# Altium footprint library 封装库.PCBLIB: 282 footprints (part 11 of 18)
Each footprint in its own frame and in the unit in brackets; x right, y up, seen from the top. Pads: shape width x height; smd on the part's side, far side on the other; paste and mask are expansions set on the pad; w line width, h text height; cw(c..) or ccw(c..) is an arc to the next point about the centre after c.
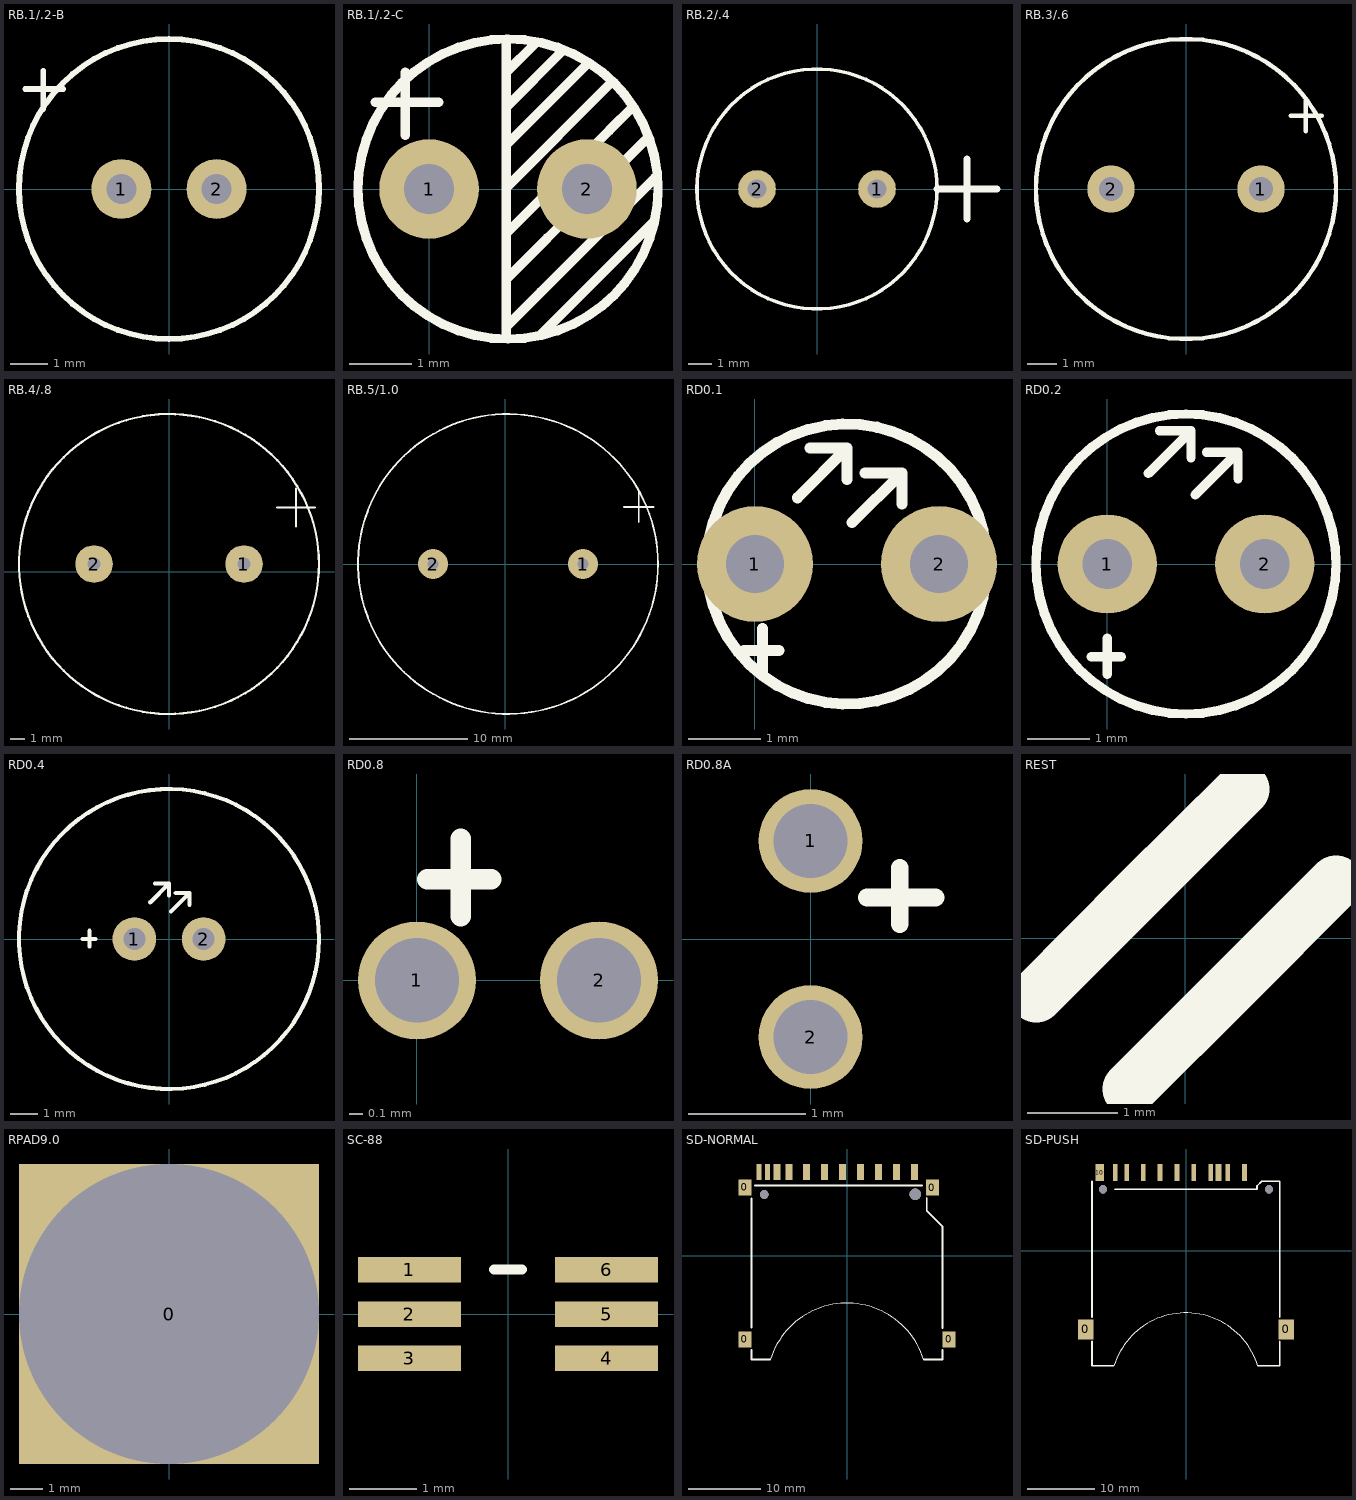
[diagram p10: the footprints below, top view; thin cyan lines are the x and y axes]

## RB.1/.2-B [mm]
pads (2):
  round 1.6 hole 0.8: 1(-1.27,0) 2(1.27,0)
TopOverlay:
  circle w0.152: c0,0 r4
  lines w0.152: -3.835,2.667 -2.819,2.667 ; -3.353,2.134 -3.353,3.15

## RB.1/.2-C [mm] "TA"
pads (2):
  round 1.6 hole 0.8: 1(0,0) 2(2.54,0)
TopOverlay:
  circle w0.152: c1.27,0 r2.413
  lines w0.152: -0.864,1.397 0.152,1.397 ; -0.381,0.864 -0.381,1.88 ; 1.245,-2.388 1.245,2.413 ; 1.245,-2.21 2.464,-0.991 ; 1.245,-1.448 1.905,-0.787 ; 1.245,-0.711 3.277,1.321 2.896,0.94 ; 1.245,0.025 2.946,1.727 ; 1.245,0.711 2.565,2.032 ; 1.245,1.321 2.159,2.235 ; 1.245,1.88 1.702,2.337 ; 1.7,-0.992 3.48,0.787 ; 1.799,-1.655 3.632,0.178 ; 1.801,-2.34 3.426,-0.714 ; 3.148,-0.993 3.607,-0.533

## RB.2/.4 [mm]
pads (2):
  round 1.6 hole 0.8: 1(2.54,0) 2(-2.54,0)
TopOverlay:
  circle w0.152: c0,0 r5.08
  lines w0.305: 5.08,0 7.62,0 ; 6.35,-1.27 6.35,1.27

## RB.3/.6 [mm]
pads (2):
  round 1.6 hole 0.8: 1(2.54,0) 2(-2.54,0)
TopOverlay:
  circle w0.152: c0,0 r5.08
  lines w0.152: 3.556,2.489 4.597,2.489 ; 4.064,1.956 4.064,2.997

## RB.4/.8 [mm]
pads (2):
  round 2.54 hole 0.9: 1(5.08,0.508) 2(-5.08,0.508)
TopOverlay:
  circle w0.152: c0,0.508 r10.16
  lines w0.152: 7.341,4.343 9.881,4.343 ; 8.611,3.073 8.611,5.613

## RB.5/1.0 [mm]
pads (2):
  round 2.54 hole 0.9: 1(6.604,0) 2(-6.096,0)
TopOverlay:
  circle w0.152: c0.254,0 r12.7
  lines w0.152: 10.058,4.826 12.598,4.826 ; 11.328,3.556 11.328,6.096

## RD0.1 [mm] "3mm LED"
pads (2):
  round 1.6 hole 0.8: 1(0,0) 2(2.54,0)
TopOverlay:
  circle w0.152: c1.27,0 r1.932
  lines w0.152: -0.152,-1.194 0.33,-1.194 ; 0.102,-1.473 0.102,-0.889 ; 0.584,0.914 1.27,1.6 1.27,1.168 ; 0.762,1.6 1.245,1.6 ; 1.342,0.572 2.028,1.258 2.028,0.826 ; 1.52,1.258 2.002,1.258

## RD0.2 [mm] "5mm LED"
pads (2):
  round 1.6 hole 0.8: 1(0,0) 2(2.54,0)
TopOverlay:
  circle w0.152: c1.27,0 r2.418
  lines w0.152: -0.254,-1.499 0.229,-1.499 ; 0,-1.778 0,-1.194 ; 0.665,1.46 1.351,2.145 1.351,1.714 ; 0.843,2.145 1.325,2.145 ; 1.422,1.118 2.108,1.803 2.108,1.372 ; 1.6,1.803 2.083,1.803

## RD0.4 [mm] "10mm LED"
pads (2):
  round 1.6 hole 0.8: 1(-1.27,0) 2(1.27,0)
TopOverlay:
  circle w0.152: c0,0 r5.5
  lines w0.152: -3.175,0 -2.692,0 ; -2.921,-0.279 -2.921,0.305 ; -0.686,1.346 0,2.032 0,1.6 ; -0.508,2.032 -0.025,2.032 ; 0.072,1.004 0.758,1.69 0.758,1.258 ; 0.25,1.69 0.732,1.69

## RD0.8 [mil]
pads (2):
  round 35 hole 25: 1(0,0) 2(54,0)
TopOverlay:
  lines w6: 3,30 22,30 ; 13,19 13,42

## RD0.8A [mil]
pads (2):
  round 35 hole 25: 1(0,33) 2(0,-33)
TopOverlay:
  lines w6: 19,14 42,14 ; 30,5 30,24

## REST [mm]
TopOverlay:
  lines w0.6: -1.651,-0.635 -0.508,0.508 0.635,1.651 ; -0.617,-1.669 0.526,-0.526 1.669,0.617

## RPAD9.0 [mm]
pads (1):
  rect 9.2x9.2 hole 9.2 square: 0(0,0)

## SC-88 [mil]
pads (6):
  rect 60x15 smd: 1(-57.5,25.8) 2(-57.5,-0.2) 3(-57.5,-25.8) 4(57.5,-25.8) 5(57.5,-0.2) 6(57.5,25.8)
TopOverlay:
  lines w6: -8,26 8,26

## SD-NORMAL [mm]
pads (15):
  rect 1.8x2.2 smd: 0(-14.199,-11.646) 0(-14.199,9.487) 0(11.862,9.474) 0(14.199,-11.646)
  rect 1x2.2 smd: 1(6.875,11.646) 2(4.375,11.646) 3(1.875,11.646) 4(-0.625,11.646) 5(-3.125,11.646) 6(-5.625,11.646) 7(-8.05,11.646) 8(-9.75,11.646) 9(9.375,11.646)
  rect 0.7x2.2 smd: 10(-12.25,11.646) 11(-11.05,11.646)
via 9.5,8.554 diameter 1.6 hole 1.6
via -11.506,8.504 diameter 1.2 hole 1.2
TopOverlay:
  lines w0.152: -10.668,-14.44 cw(c-0.001,-17.797) 10.672,-14.456
  lines w0.254: -13.3,-13.141 -13.3,-14.45 -12.462,-14.45 ; -13.3,-10.008 -13.3,4.674 ; -13.3,2.413 -13.3,7.976 ; -13.3,3.315 -13.3,3.823 ; -12.827,9.766 10.414,9.766 10.424,9.776 ; -12.7,-14.45 -10.678,-14.45 ; 11.1,6.858 11.1,6.248 ; 11.1,6.96 11.1,8.026 ; 11.1,7.62 11.1,6.248 ; 11.684,5.664 11.1,6.248 ; 12.2,5.143 13.3,4.044 13.3,-4.626 ; 13.28,-14.456 10.672,-14.456 13.301,-14.456 13.301,-13.107 ; 13.3,-10.109 13.3,-6.731 ; 13.3,-8.052 13.3,-2.87 ; 13.3,3.759 13.3,4.048 11.1,6.248

## SD-PUSH [mm]
pads (13):
  rect 2.3x3 smd: 0(-14.821,-11.607) 0(14.821,-11.607)
  rect 0.7x2.54 smd: 1(6.162,11.607) 2(3.662,11.607) 3(1.162,11.607) 4(-1.338,11.607) 5(-3.838,11.607) 6(-6.338,11.607) 7(-8.763,11.607) 8(-10.463,11.607) 9(8.662,11.607)
  rect 1.2x2.54 smd: 10(-12.763,11.607)
  rect 0.9x2.54 smd: 11(4.787,11.607)
via -12.313,9.143 diameter 1.2 hole 1.2
via 12.287,9.143 diameter 1.2 hole 1.2
TopOverlay:
  lines w0.152: -10.685,-16.991 cw(c-0.017,-20.347) 10.655,-17.007
  lines w0.254: -13.913,-13.393 -13.913,-17.007 -10.701,-17.007 ; -13.913,-9.799 -13.913,-9.621 -13.913,8.076 ; -13.913,7.568 -13.913,8.076 ; -13.913,10.337 -13.913,8.076 ; -10.528,9.143 -0.013,9.143 10.503,9.143 10.503,9.626 11.214,10.337 ; 10.655,-17.007 13.887,-17.007 13.887,-13.399 ; 12.033,9.143 12.541,9.143 ; 12.128,10.337 11.214,10.337 ; 13.887,-9.786 13.887,-9.615 13.887,-6.579 ; 13.887,-7.144 13.887,10.337 11.214,10.337